# Altium integrated library Microchip Power Management CPU-System Supervisor.IntLib: 428 symbols (part 8 of 12)
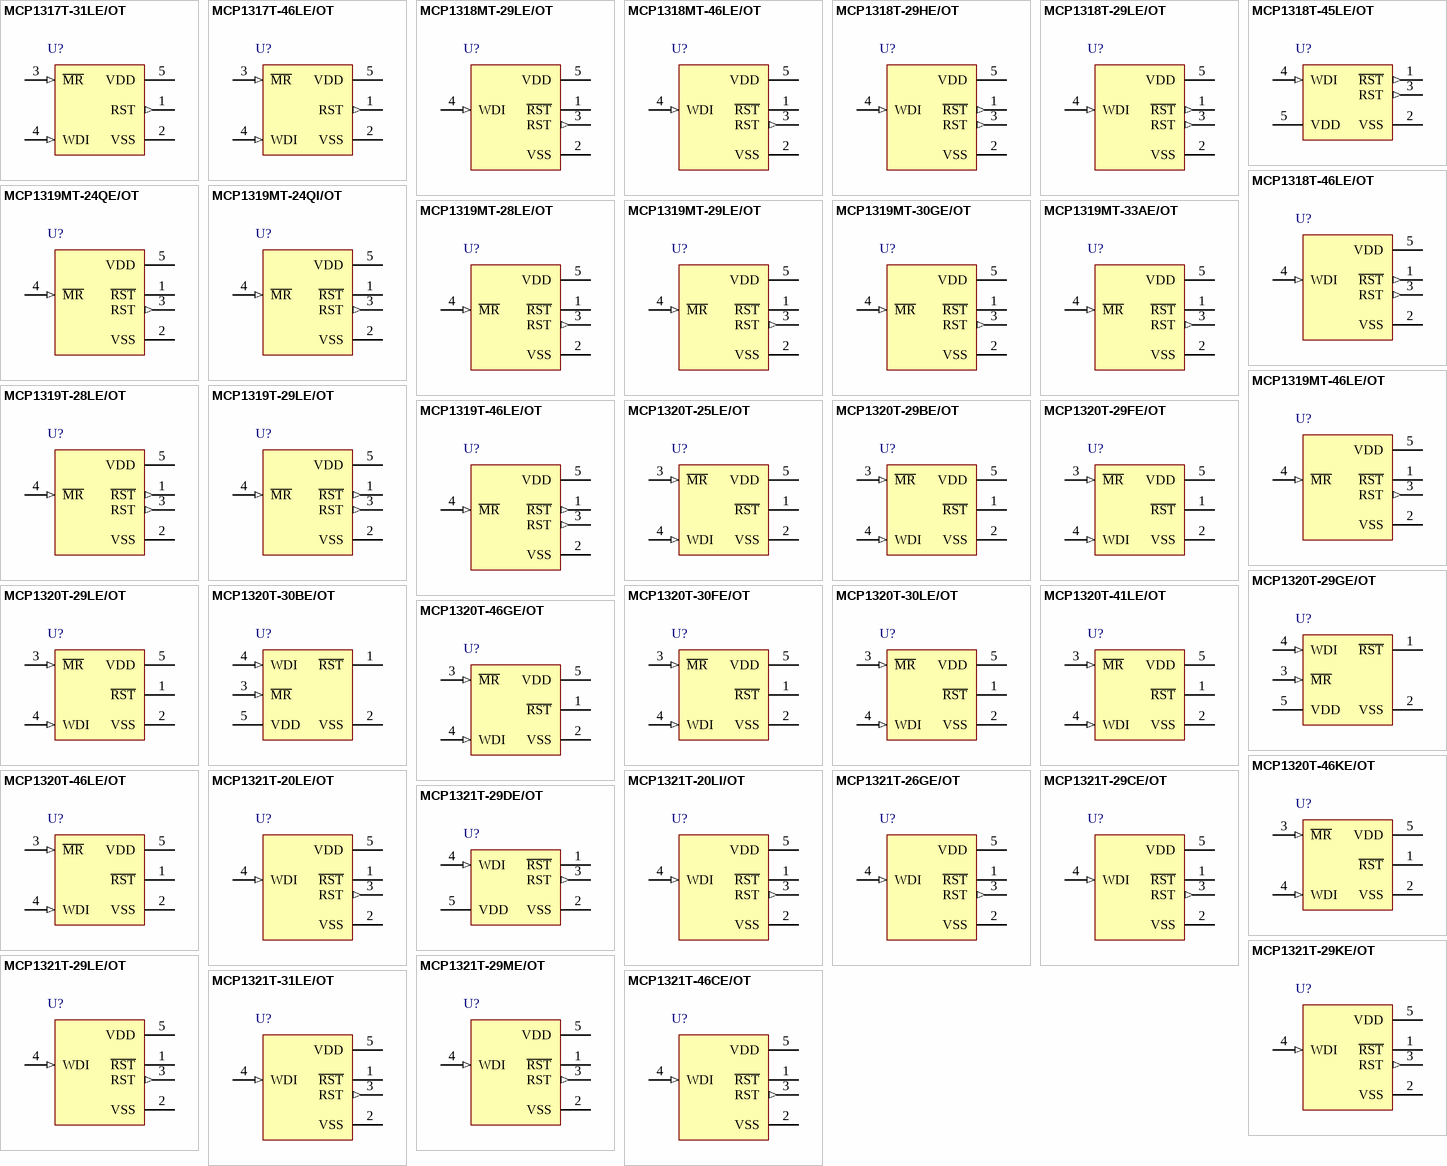
[diagram p17: symbols MCP1317T-31LE/OT to MCP1321T-46CE/OT]

## MCP1320T-46GE/OT
designator U?
Voltage Supervisor, 5-Pin SOT-23, Extended Temperature, Tape and Reel; Manufacturer: Microchip; PartNumber: MCP1320T-46GE/OT; DatasheetVersion: revB, Oct-2007; PackageVersion: revBB, Aug-2009; PackageReference: SOT-23-OT5; PackageDescription: 5-Lead Plastic Small Outline Transistor (OT) [SOT-23]; Supplier 1: Digi-Key; Supplier Part Number 1: MCP1320T-46GE/OTTR-ND; Supplier 2: Digi-Key; Supplier Part Number 2: MCP1320T-46GE/OTCT-ND; Supplier 3: Digi-Key; Supplier Part Number 3: MCP1320T-46GE/OTDKR-ND; Supplier 4: Mouser; Supplier Part Number 4: 579-MCP1320T-46GE/OT; Mounting Technology: Surface Mount; Code_IPC: SOT23-5; ComponentLink1Description: Manufacturer URL; ComponentLink1URL: http://www.microchip.com/; ComponentLink2Description: Datasheet; ComponentLink2URL: http://ww1.microchip.com/downloads/en/DeviceDoc/21985b.pdf; ComponentLink3Description: Package Specification; ComponentLink3URL: http://www.microchip.com/stellent/groups/techpub_sg/documents/packagingspec/en012702.pdf
footprint SOT-23-OT5_N (SOT23, 5-Leads, Body 2.9x1.6mm, Pitch 0.95mm, Lead Span 2.7mm, IPC Medium Density)
footprint SOT-23-OT5_L (SOT23, 5-Leads, Body 2.9x1.6mm, Pitch 0.95mm, Lead Span 2.7mm, IPC High Density)
footprint SOT-23-OT5_M (SOT23, 5-Leads, Body 2.9x1.6mm, Pitch 0.95mm, Lead Span 2.7mm, IPC Low Density)
pins: 1 ~{RST} (oc), 2 VSS (power), 3 ~{MR} (in), 4 WDI (in), 5 VDD (power)

## MCP1320T-46KE/OT
designator U?
Voltage Supervisor, 5-Pin SOT-23, Extended Temperature, Tape and Reel; Manufacturer: Microchip; PartNumber: MCP1320T-46KE/OT; DatasheetVersion: revB, Oct-2007; PackageVersion: revBB, Aug-2009; PackageReference: SOT-23-OT5; PackageDescription: 5-Lead Plastic Small Outline Transistor (OT) [SOT-23]; Supplier 1: Digi-Key; Supplier Part Number 1: MCP1320T-46KE/OTTR-ND; Supplier 2: Digi-Key; Supplier Part Number 2: MCP1320T-46KE/OTCT-ND; Supplier 3: Digi-Key; Supplier Part Number 3: MCP1320T-46KE/OTDKR-ND; Supplier 4: Mouser; Supplier Part Number 4: 579-MCP1320T-46KE/OT; Mounting Technology: Surface Mount; Code_IPC: SOT23-5; ComponentLink1Description: Manufacturer URL; ComponentLink1URL: http://www.microchip.com/; ComponentLink2Description: Datasheet; ComponentLink2URL: http://ww1.microchip.com/downloads/en/DeviceDoc/21985b.pdf; ComponentLink3Description: Package Specification; ComponentLink3URL: http://www.microchip.com/stellent/groups/techpub_sg/documents/packagingspec/en012702.pdf
footprint SOT-23-OT5_N (SOT23, 5-Leads, Body 2.9x1.6mm, Pitch 0.95mm, Lead Span 2.7mm, IPC Medium Density)
footprint SOT-23-OT5_L (SOT23, 5-Leads, Body 2.9x1.6mm, Pitch 0.95mm, Lead Span 2.7mm, IPC High Density)
footprint SOT-23-OT5_M (SOT23, 5-Leads, Body 2.9x1.6mm, Pitch 0.95mm, Lead Span 2.7mm, IPC Low Density)
pins: 1 ~{RST} (oc), 2 VSS (power), 3 ~{MR} (in), 4 WDI (in), 5 VDD (power)

## MCP1320T-46LE/OT
designator U?
Voltage Supervisor, 5-Pin SOT-23, Extended Temperature, Tape and Reel; Manufacturer: Microchip; PartNumber: MCP1320T-46LE/OT; DatasheetVersion: revB, Oct-2007; PackageVersion: revBB, Aug-2009; PackageReference: SOT-23-OT5; PackageDescription: 5-Lead Plastic Small Outline Transistor (OT) [SOT-23]; Supplier 1: Digi-Key; Supplier Part Number 1: MCP1320T-46LE/OTTR-ND; Supplier 2: Digi-Key; Supplier Part Number 2: MCP1320T-46LE/OTCT-ND; Supplier 3: Digi-Key; Supplier Part Number 3: MCP1320T-46LE/OTDKR-ND; Supplier 4: Farnell; Supplier Part Number 4: 1439365; Supplier 5: Farnell; Supplier Part Number 5: 1439365RL; Supplier 6: Newark; Supplier Part Number 6: 58M8858; Supplier 7: Newark; Supplier Part Number 7: 69K0089; Supplier 8: Mouser; Supplier Part Number 8: 579-MCP1320T-46LE/OT; Mounting Technology: Surface Mount; Code_IPC: SOT23-5; ComponentLink1Description: Manufacturer URL; ComponentLink1URL: http://www.microchip.com/; ComponentLink2Description: Datasheet; ComponentLink2URL: http://ww1.microchip.com/downloads/en/DeviceDoc/21985b.pdf; ComponentLink3Description: Package Specification; ComponentLink3URL: http://www.microchip.com/stellent/groups/techpub_sg/documents/packagingspec/en012702.pdf
footprint SOT-23-OT5_N (SOT23, 5-Leads, Body 2.9x1.6mm, Pitch 0.95mm, Lead Span 2.7mm, IPC Medium Density)
footprint SOT-23-OT5_L (SOT23, 5-Leads, Body 2.9x1.6mm, Pitch 0.95mm, Lead Span 2.7mm, IPC High Density)
footprint SOT-23-OT5_M (SOT23, 5-Leads, Body 2.9x1.6mm, Pitch 0.95mm, Lead Span 2.7mm, IPC Low Density)
pins: 1 ~{RST} (oc), 2 VSS (power), 3 ~{MR} (in), 4 WDI (in), 5 VDD (power)

## MCP1321T-20LE/OT
designator U?
Voltage Supervisor, 5-Pin SOT-23, Extended Temperature, Tape and Reel; Manufacturer: Microchip; PartNumber: MCP1321T-20LE/OT; DatasheetVersion: revB, Oct-2007; PackageVersion: revBB, Aug-2009; PackageReference: SOT-23-OT5; PackageDescription: 5-Lead Plastic Small Outline Transistor (OT) [SOT-23]; Mounting Technology: Surface Mount; Code_IPC: SOT23-5; ComponentLink1Description: Manufacturer URL; ComponentLink1URL: http://www.microchip.com/; ComponentLink2Description: Datasheet; ComponentLink2URL: http://ww1.microchip.com/downloads/en/DeviceDoc/21985b.pdf; ComponentLink3Description: Package Specification; ComponentLink3URL: http://www.microchip.com/stellent/groups/techpub_sg/documents/packagingspec/en012702.pdf
footprint SOT-23-OT5_N (SOT23, 5-Leads, Body 2.9x1.6mm, Pitch 0.95mm, Lead Span 2.7mm, IPC Medium Density)
footprint SOT-23-OT5_L (SOT23, 5-Leads, Body 2.9x1.6mm, Pitch 0.95mm, Lead Span 2.7mm, IPC High Density)
footprint SOT-23-OT5_M (SOT23, 5-Leads, Body 2.9x1.6mm, Pitch 0.95mm, Lead Span 2.7mm, IPC Low Density)
pins: 1 ~{RST} (oc), 2 VSS (power), 3 RST (out), 4 WDI (in), 5 VDD (power)

## MCP1321T-20LI/OT
designator U?
Voltage Supervisor, 5-Pin SOT-23, Extended Temperature, Tape and Reel; Manufacturer: Microchip; PartNumber: MCP1321T-20LI/OT; DatasheetVersion: revB, Oct-2007; PackageVersion: revBB, Aug-2009; PackageReference: SOT-23-OT5; PackageDescription: 5-Lead Plastic Small Outline Transistor (OT) [SOT-23]; Mounting Technology: Surface Mount; Code_IPC: SOT23-5; ComponentLink1Description: Manufacturer URL; ComponentLink1URL: http://www.microchip.com/; ComponentLink2Description: Datasheet; ComponentLink2URL: http://ww1.microchip.com/downloads/en/DeviceDoc/21985b.pdf; ComponentLink3Description: Package Specification; ComponentLink3URL: http://www.microchip.com/stellent/groups/techpub_sg/documents/packagingspec/en012702.pdf
footprint SOT-23-OT5_N (SOT23, 5-Leads, Body 2.9x1.6mm, Pitch 0.95mm, Lead Span 2.7mm, IPC Medium Density)
footprint SOT-23-OT5_L (SOT23, 5-Leads, Body 2.9x1.6mm, Pitch 0.95mm, Lead Span 2.7mm, IPC High Density)
footprint SOT-23-OT5_M (SOT23, 5-Leads, Body 2.9x1.6mm, Pitch 0.95mm, Lead Span 2.7mm, IPC Low Density)
pins: 1 ~{RST} (oc), 2 VSS (power), 3 RST (out), 4 WDI (in), 5 VDD (power)

## MCP1321T-26GE/OT
designator U?
Voltage Supervisor, 5-Pin SOT-23, Extended Temperature, Tape and Reel; Manufacturer: Microchip; PartNumber: MCP1321T-26GE/OT; DatasheetVersion: revB, Oct-2007; PackageVersion: revBB, Aug-2009; PackageReference: SOT-23-OT5; PackageDescription: 5-Lead Plastic Small Outline Transistor (OT) [SOT-23]; Mounting Technology: Surface Mount; Code_IPC: SOT23-5; ComponentLink1Description: Manufacturer URL; ComponentLink1URL: http://www.microchip.com/; ComponentLink2Description: Datasheet; ComponentLink2URL: http://ww1.microchip.com/downloads/en/DeviceDoc/21985b.pdf; ComponentLink3Description: Package Specification; ComponentLink3URL: http://www.microchip.com/stellent/groups/techpub_sg/documents/packagingspec/en012702.pdf
footprint SOT-23-OT5_N (SOT23, 5-Leads, Body 2.9x1.6mm, Pitch 0.95mm, Lead Span 2.7mm, IPC Medium Density)
footprint SOT-23-OT5_L (SOT23, 5-Leads, Body 2.9x1.6mm, Pitch 0.95mm, Lead Span 2.7mm, IPC High Density)
footprint SOT-23-OT5_M (SOT23, 5-Leads, Body 2.9x1.6mm, Pitch 0.95mm, Lead Span 2.7mm, IPC Low Density)
pins: 1 ~{RST} (oc), 2 VSS (power), 3 RST (out), 4 WDI (in), 5 VDD (power)

## MCP1321T-29CE/OT
designator U?
Voltage Supervisor, 5-Pin SOT-23, Extended Temperature, Tape and Reel; Manufacturer: Microchip; PartNumber: MCP1321T-29CE/OT; DatasheetVersion: revB, Oct-2007; PackageVersion: revBB, Aug-2009; PackageReference: SOT-23-OT5; PackageDescription: 5-Lead Plastic Small Outline Transistor (OT) [SOT-23]; Mounting Technology: Surface Mount; Code_IPC: SOT23-5; ComponentLink1Description: Manufacturer URL; ComponentLink1URL: http://www.microchip.com/; ComponentLink2Description: Datasheet; ComponentLink2URL: http://ww1.microchip.com/downloads/en/DeviceDoc/21985b.pdf; ComponentLink3Description: Package Specification; ComponentLink3URL: http://www.microchip.com/stellent/groups/techpub_sg/documents/packagingspec/en012702.pdf
footprint SOT-23-OT5_N (SOT23, 5-Leads, Body 2.9x1.6mm, Pitch 0.95mm, Lead Span 2.7mm, IPC Medium Density)
footprint SOT-23-OT5_L (SOT23, 5-Leads, Body 2.9x1.6mm, Pitch 0.95mm, Lead Span 2.7mm, IPC High Density)
footprint SOT-23-OT5_M (SOT23, 5-Leads, Body 2.9x1.6mm, Pitch 0.95mm, Lead Span 2.7mm, IPC Low Density)
pins: 1 ~{RST} (oc), 2 VSS (power), 3 RST (out), 4 WDI (in), 5 VDD (power)

## MCP1321T-29DE/OT
designator U?
Voltage Supervisor, 1 uA, 1 to 5.5 V, -40 to 125 degC, 5-pin SOT-23 (OT5), Tape and Reel; Manufacturer: Microchip; PartNumber: MCP1321T-29DE/OT; DatasheetVersion: Rev. D; PackageVersion: C04-091B; PackageReference: SOT-23-OT5; PackageDescription: 5-Lead Plastic Small Outline Transistor, 2.9 x 1.55 mm Body, 0.95 mm Pitch; Mounting Technology: Surface Mount; ComponentLink1Description: Manufacturer URL; ComponentLink1URL: http://www.microchip.com; ComponentLink2Description: Datasheet; ComponentLink2URL: http://ww1.microchip.com/downloads/en/DeviceDoc/21985D.pdf; ComponentLink3Description: Package Specification; ComponentLink3URL: http://www.microchip.com/stellent/groups/techpub_sg/documents/packagingspec/en012702.pdf; ComponentLink4Description: Product URL; ComponentLink4URL: http://www.microchip.com/MCP1321
footprint MCHP-SOT-23-OT5_N (SOT23, 5-Leads, Body 2.9x1.55mm, Pitch 0.95mm, IPC Medium Density)
footprint MCHP-SOT-23-OT5_L (SOT23, 5-Leads, Body 2.9x1.55mm, Pitch 0.95mm, IPC High Density)
footprint MCHP-SOT-23-OT5_M (SOT23, 5-Leads, Body 2.9x1.55mm, Pitch 0.95mm, IPC Low Density)
pins: 1 ~{RST} (oc) "Reset Output (active-low)", 2 VSS (power) "The ground reference for the device.", 3 RST (out) "Reset Output (active-high)", 4 WDI (in) "Watchdog Timer Input  The WDT period is specified at the time of device order. The Standard WDT period is 1.6s typical. An edge transition on the WDI pin resets the Watchdog Timer counter (no time out). A Falling Edge is (See Datasheet)", 5 VDD (power) "The positive supply for the device."

## MCP1321T-29KE/OT
designator U?
Voltage Supervisor, 5-Pin SOT-23, Extended Temperature, Tape and Reel; Manufacturer: Microchip; PartNumber: MCP1321T-29KE/OT; DatasheetVersion: revB, Oct-2007; PackageVersion: revBB, Aug-2009; PackageReference: SOT-23-OT5; PackageDescription: 5-Lead Plastic Small Outline Transistor (OT) [SOT-23]; Supplier 1: Digi-Key; Supplier Part Number 1: MCP1321T-29KE/OTTR-ND; Supplier 2: Digi-Key; Supplier Part Number 2: MCP1321T-29KE/OTCT-ND; Supplier 3: Digi-Key; Supplier Part Number 3: MCP1321T-29KE/OTDKR-ND; Supplier 4: Mouser; Supplier Part Number 4: 579-MCP1321T-29KE/OT; Mounting Technology: Surface Mount; Code_IPC: SOT23-5; ComponentLink1Description: Manufacturer URL; ComponentLink1URL: http://www.microchip.com/; ComponentLink2Description: Datasheet; ComponentLink2URL: http://ww1.microchip.com/downloads/en/DeviceDoc/21985b.pdf; ComponentLink3Description: Package Specification; ComponentLink3URL: http://www.microchip.com/stellent/groups/techpub_sg/documents/packagingspec/en012702.pdf
footprint SOT-23-OT5_N (SOT23, 5-Leads, Body 2.9x1.6mm, Pitch 0.95mm, Lead Span 2.7mm, IPC Medium Density)
footprint SOT-23-OT5_L (SOT23, 5-Leads, Body 2.9x1.6mm, Pitch 0.95mm, Lead Span 2.7mm, IPC High Density)
footprint SOT-23-OT5_M (SOT23, 5-Leads, Body 2.9x1.6mm, Pitch 0.95mm, Lead Span 2.7mm, IPC Low Density)
pins: 1 ~{RST} (oc), 2 VSS (power), 3 RST (out), 4 WDI (in), 5 VDD (power)

## MCP1321T-29LE/OT
designator U?
Voltage Supervisor, 5-Pin SOT-23, Extended Temperature, Tape and Reel; Manufacturer: Microchip; PartNumber: MCP1321T-29LE/OT; DatasheetVersion: revB, Oct-2007; PackageVersion: revBB, Aug-2009; PackageReference: SOT-23-OT5; PackageDescription: 5-Lead Plastic Small Outline Transistor (OT) [SOT-23]; Supplier 1: Digi-Key; Supplier Part Number 1: MCP1321T-29LE/OTTR-ND; Supplier 2: Digi-Key; Supplier Part Number 2: MCP1321T-29LE/OTCT-ND; Supplier 3: Digi-Key; Supplier Part Number 3: MCP1321T-29LE/OTDKR-ND; Supplier 4: Farnell; Supplier Part Number 4: 1439366; Supplier 5: Farnell; Supplier Part Number 5: 1439366RL; Supplier 6: Newark; Supplier Part Number 6: 58M8859; Supplier 7: Newark; Supplier Part Number 7: 69K0090; Supplier 8: Mouser; Supplier Part Number 8: 579-MCP1321T-29LE/OT; Mounting Technology: Surface Mount; Code_IPC: SOT23-5; ComponentLink1Description: Manufacturer URL; ComponentLink1URL: http://www.microchip.com/; ComponentLink2Description: Datasheet; ComponentLink2URL: http://ww1.microchip.com/downloads/en/DeviceDoc/21985b.pdf; ComponentLink3Description: Package Specification; ComponentLink3URL: http://www.microchip.com/stellent/groups/techpub_sg/documents/packagingspec/en012702.pdf
footprint SOT-23-OT5_N (SOT23, 5-Leads, Body 2.9x1.6mm, Pitch 0.95mm, Lead Span 2.7mm, IPC Medium Density)
footprint SOT-23-OT5_L (SOT23, 5-Leads, Body 2.9x1.6mm, Pitch 0.95mm, Lead Span 2.7mm, IPC High Density)
footprint SOT-23-OT5_M (SOT23, 5-Leads, Body 2.9x1.6mm, Pitch 0.95mm, Lead Span 2.7mm, IPC Low Density)
pins: 1 ~{RST} (oc), 2 VSS (power), 3 RST (out), 4 WDI (in), 5 VDD (power)

## MCP1321T-29ME/OT
designator U?
Voltage Supervisor, 5-Pin SOT-23, Extended Temperature, Tape and Reel; Manufacturer: Microchip; PartNumber: MCP1321T-29ME/OT; DatasheetVersion: revB, Oct-2007; PackageVersion: revBB, Aug-2009; PackageReference: SOT-23-OT5; PackageDescription: 5-Lead Plastic Small Outline Transistor (OT) [SOT-23]; Supplier 1: Digi-Key; Supplier Part Number 1: MCP1321T-29ME/OTTR-ND; Supplier 2: Digi-Key; Supplier Part Number 2: MCP1321T-29ME/OTCT-ND; Supplier 3: Digi-Key; Supplier Part Number 3: MCP1321T-29ME/OTDKR-ND; Supplier 4: Mouser; Supplier Part Number 4: 579-MCP1321T-29ME/OT; Mounting Technology: Surface Mount; Code_IPC: SOT23-5; ComponentLink1Description: Manufacturer URL; ComponentLink1URL: http://www.microchip.com/; ComponentLink2Description: Datasheet; ComponentLink2URL: http://ww1.microchip.com/downloads/en/DeviceDoc/21985b.pdf; ComponentLink3Description: Package Specification; ComponentLink3URL: http://www.microchip.com/stellent/groups/techpub_sg/documents/packagingspec/en012702.pdf
footprint SOT-23-OT5_N (SOT23, 5-Leads, Body 2.9x1.6mm, Pitch 0.95mm, Lead Span 2.7mm, IPC Medium Density)
footprint SOT-23-OT5_L (SOT23, 5-Leads, Body 2.9x1.6mm, Pitch 0.95mm, Lead Span 2.7mm, IPC High Density)
footprint SOT-23-OT5_M (SOT23, 5-Leads, Body 2.9x1.6mm, Pitch 0.95mm, Lead Span 2.7mm, IPC Low Density)
pins: 1 ~{RST} (oc), 2 VSS (power), 3 RST (out), 4 WDI (in), 5 VDD (power)

## MCP1321T-31LE/OT
designator U?
Voltage Supervisor, 5-Pin SOT-23, Extended Temperature, Tape and Reel; Manufacturer: Microchip; PartNumber: MCP1321T-31LE/OT; DatasheetVersion: revB, Oct-2007; PackageVersion: revBB, Aug-2009; PackageReference: SOT-23-OT5; PackageDescription: 5-Lead Plastic Small Outline Transistor (OT) [SOT-23]; Mounting Technology: Surface Mount; Code_IPC: SOT23-5; ComponentLink1Description: Manufacturer URL; ComponentLink1URL: http://www.microchip.com/; ComponentLink2Description: Datasheet; ComponentLink2URL: http://ww1.microchip.com/downloads/en/DeviceDoc/21985b.pdf; ComponentLink3Description: Package Specification; ComponentLink3URL: http://www.microchip.com/stellent/groups/techpub_sg/documents/packagingspec/en012702.pdf
footprint SOT-23-OT5_N (SOT23, 5-Leads, Body 2.9x1.6mm, Pitch 0.95mm, Lead Span 2.7mm, IPC Medium Density)
footprint SOT-23-OT5_L (SOT23, 5-Leads, Body 2.9x1.6mm, Pitch 0.95mm, Lead Span 2.7mm, IPC High Density)
footprint SOT-23-OT5_M (SOT23, 5-Leads, Body 2.9x1.6mm, Pitch 0.95mm, Lead Span 2.7mm, IPC Low Density)
pins: 1 ~{RST} (oc), 2 VSS (power), 3 RST (out), 4 WDI (in), 5 VDD (power)

## MCP1321T-46CE/OT
designator U?
Voltage Supervisor, 5-Pin SOT-23, Extended Temperature, Tape and Reel; Manufacturer: Microchip; PartNumber: MCP1321T-46CE/OT; DatasheetVersion: revB, Oct-2007; PackageVersion: revBB, Aug-2009; PackageReference: SOT-23-OT5; PackageDescription: 5-Lead Plastic Small Outline Transistor (OT) [SOT-23]; Supplier 1: Digi-Key; Supplier Part Number 1: MCP1321T-46CE/OTTR-ND; Supplier 2: Digi-Key; Supplier Part Number 2: MCP1321T-46CE/OTCT-ND; Supplier 3: Digi-Key; Supplier Part Number 3: MCP1321T-46CE/OTDKR-ND; Supplier 4: Mouser; Supplier Part Number 4: 579-MCP1321T-46CE/OT; Mounting Technology: Surface Mount; Code_IPC: SOT23-5; ComponentLink1Description: Manufacturer URL; ComponentLink1URL: http://www.microchip.com/; ComponentLink2Description: Datasheet; ComponentLink2URL: http://ww1.microchip.com/downloads/en/DeviceDoc/21985b.pdf; ComponentLink3Description: Package Specification; ComponentLink3URL: http://www.microchip.com/stellent/groups/techpub_sg/documents/packagingspec/en012702.pdf
footprint SOT-23-OT5_N (SOT23, 5-Leads, Body 2.9x1.6mm, Pitch 0.95mm, Lead Span 2.7mm, IPC Medium Density)
footprint SOT-23-OT5_L (SOT23, 5-Leads, Body 2.9x1.6mm, Pitch 0.95mm, Lead Span 2.7mm, IPC High Density)
footprint SOT-23-OT5_M (SOT23, 5-Leads, Body 2.9x1.6mm, Pitch 0.95mm, Lead Span 2.7mm, IPC Low Density)
pins: 1 ~{RST} (oc), 2 VSS (power), 3 RST (out), 4 WDI (in), 5 VDD (power)

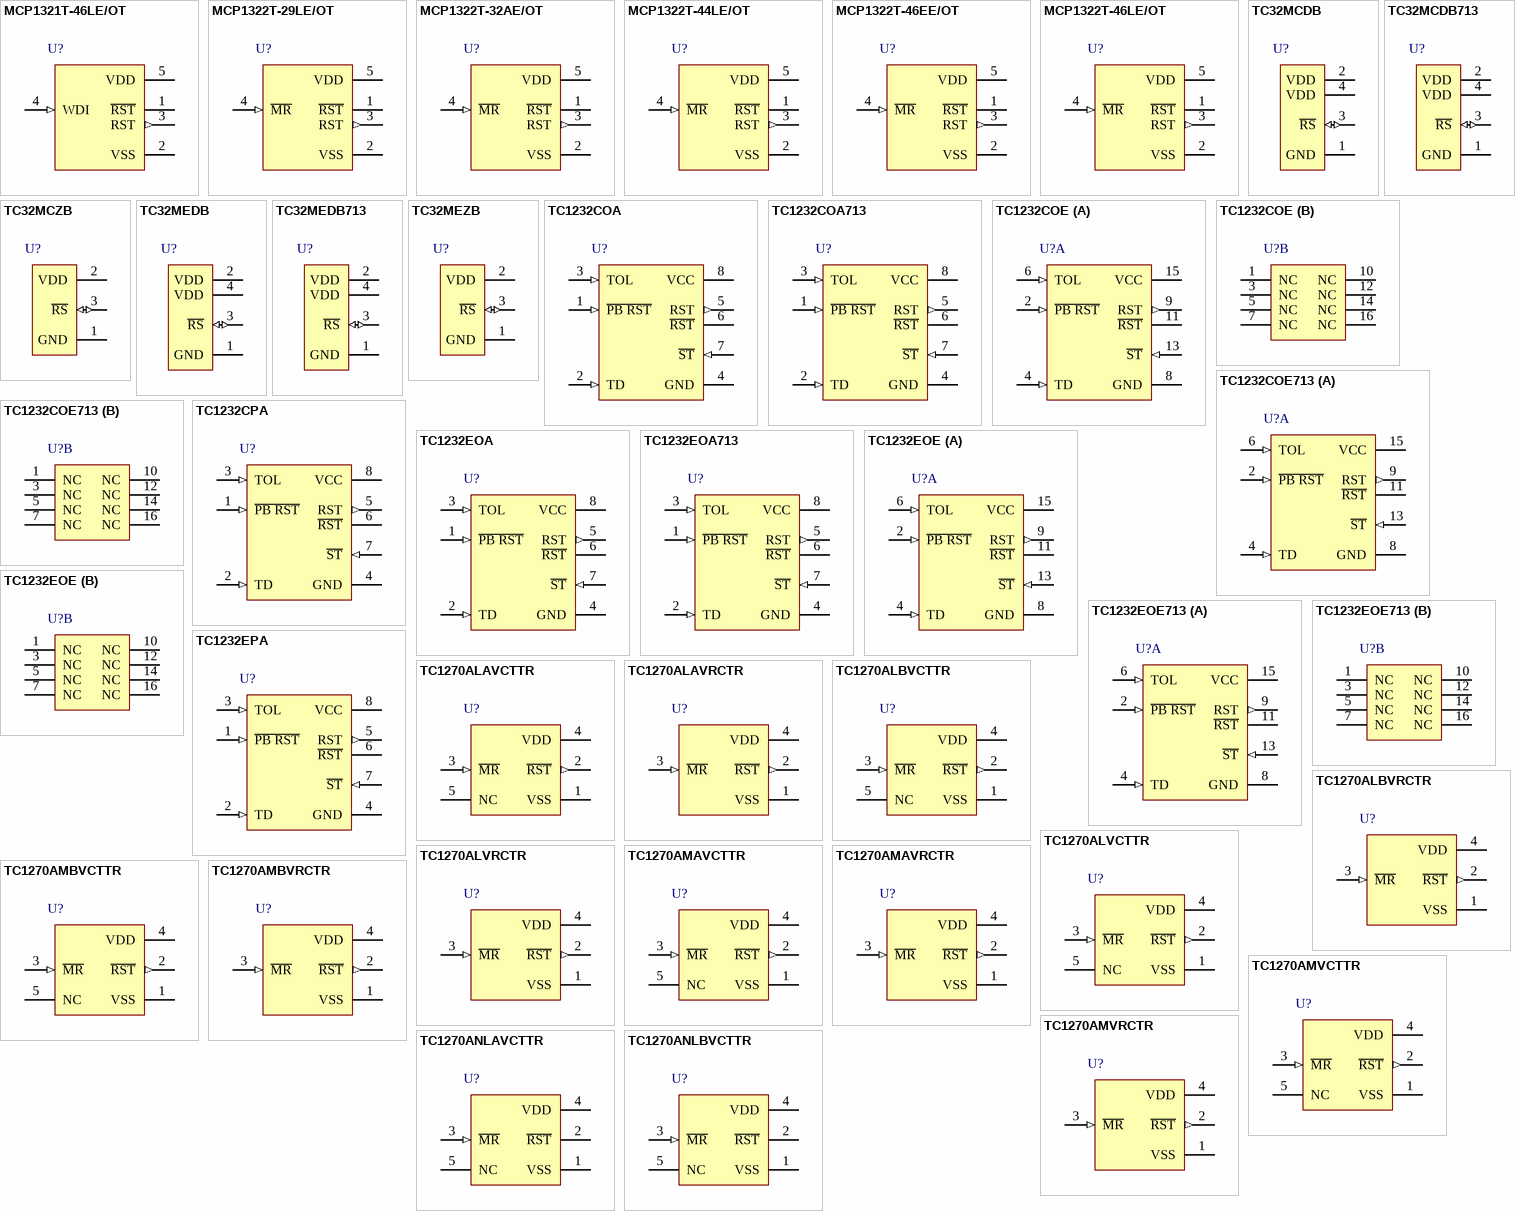
[diagram p7: symbols MCP1321T-46LE/OT to TC1270ANLBVCTTR]

## MCP1321T-46LE/OT
designator U?
Voltage Supervisor, 5-Pin SOT-23, Extended Temperature, Tape and Reel; Manufacturer: Microchip; PartNumber: MCP1321T-46LE/OT; DatasheetVersion: revB, Oct-2007; PackageVersion: revBB, Aug-2009; PackageReference: SOT-23-OT5; PackageDescription: 5-Lead Plastic Small Outline Transistor (OT) [SOT-23]; Supplier 1: Digi-Key; Supplier Part Number 1: MCP1321T-46LE/OTTR-ND; Supplier 2: Digi-Key; Supplier Part Number 2: MCP1321T-46LE/OTCT-ND; Supplier 3: Digi-Key; Supplier Part Number 3: MCP1321T-46LE/OTDKR-ND; Supplier 4: Newark; Supplier Part Number 4: 69K0091; Supplier 5: Mouser; Supplier Part Number 5: 579-MCP1321T-46LE/OT; Mounting Technology: Surface Mount; Code_IPC: SOT23-5; ComponentLink1Description: Manufacturer URL; ComponentLink1URL: http://www.microchip.com/; ComponentLink2Description: Datasheet; ComponentLink2URL: http://ww1.microchip.com/downloads/en/DeviceDoc/21985b.pdf; ComponentLink3Description: Package Specification; ComponentLink3URL: http://www.microchip.com/stellent/groups/techpub_sg/documents/packagingspec/en012702.pdf
footprint SOT-23-OT5_N (SOT23, 5-Leads, Body 2.9x1.6mm, Pitch 0.95mm, Lead Span 2.7mm, IPC Medium Density)
footprint SOT-23-OT5_L (SOT23, 5-Leads, Body 2.9x1.6mm, Pitch 0.95mm, Lead Span 2.7mm, IPC High Density)
footprint SOT-23-OT5_M (SOT23, 5-Leads, Body 2.9x1.6mm, Pitch 0.95mm, Lead Span 2.7mm, IPC Low Density)
pins: 1 ~{RST} (oc), 2 VSS (power), 3 RST (out), 4 WDI (in), 5 VDD (power)

## MCP1322T-29LE/OT
designator U?
Voltage Supervisor, 5-Pin SOT-23, Extended Temperature, Tape and Reel; Manufacturer: Microchip; PartNumber: MCP1322T-29LE/OT; DatasheetVersion: revB, Oct-2007; PackageVersion: revBB, Aug-2009; PackageReference: SOT-23-OT5; PackageDescription: 5-Lead Plastic Small Outline Transistor (OT) [SOT-23]; Supplier 1: Digi-Key; Supplier Part Number 1: MCP1322T-29LE/OTTR-ND; Supplier 2: Digi-Key; Supplier Part Number 2: MCP1322T-29LE/OTCT-ND; Supplier 3: Digi-Key; Supplier Part Number 3: MCP1322T-29LE/OTDKR-ND; Supplier 4: Farnell; Supplier Part Number 4: 1439368RL; Supplier 5: Farnell; Supplier Part Number 5: 1439368; Supplier 6: Newark; Supplier Part Number 6: 58M8861; Supplier 7: Newark; Supplier Part Number 7: 69K0092; Supplier 8: Mouser; Supplier Part Number 8: 579-MCP1322T-29LE/OT; Mounting Technology: Surface Mount; Code_IPC: SOT23-5; ComponentLink1Description: Manufacturer URL; ComponentLink1URL: http://www.microchip.com/; ComponentLink2Description: Datasheet; ComponentLink2URL: http://ww1.microchip.com/downloads/en/DeviceDoc/21985b.pdf; ComponentLink3Description: Package Specification; ComponentLink3URL: http://www.microchip.com/stellent/groups/techpub_sg/documents/packagingspec/en012702.pdf
footprint SOT-23-OT5_N (SOT23, 5-Leads, Body 2.9x1.6mm, Pitch 0.95mm, Lead Span 2.7mm, IPC Medium Density)
footprint SOT-23-OT5_L (SOT23, 5-Leads, Body 2.9x1.6mm, Pitch 0.95mm, Lead Span 2.7mm, IPC High Density)
footprint SOT-23-OT5_M (SOT23, 5-Leads, Body 2.9x1.6mm, Pitch 0.95mm, Lead Span 2.7mm, IPC Low Density)
pins: 1 ~{RST} (oc), 2 VSS (power), 3 RST (out), 4 ~{MR} (in), 5 VDD (power)

## MCP1322T-32AE/OT
designator U?
Voltage Supervisor, 5-Pin SOT-23, Extended Temperature, Tape and Reel; Manufacturer: Microchip; PartNumber: MCP1322T-32AE/OT; DatasheetVersion: revB, Oct-2007; PackageVersion: revBB, Aug-2009; PackageReference: SOT-23-OT5; PackageDescription: 5-Lead Plastic Small Outline Transistor (OT) [SOT-23]; Mounting Technology: Surface Mount; Code_IPC: SOT23-5; ComponentLink1Description: Manufacturer URL; ComponentLink1URL: http://www.microchip.com/; ComponentLink2Description: Datasheet; ComponentLink2URL: http://ww1.microchip.com/downloads/en/DeviceDoc/21985b.pdf; ComponentLink3Description: Package Specification; ComponentLink3URL: http://www.microchip.com/stellent/groups/techpub_sg/documents/packagingspec/en012702.pdf
footprint SOT-23-OT5_N (SOT23, 5-Leads, Body 2.9x1.6mm, Pitch 0.95mm, Lead Span 2.7mm, IPC Medium Density)
footprint SOT-23-OT5_L (SOT23, 5-Leads, Body 2.9x1.6mm, Pitch 0.95mm, Lead Span 2.7mm, IPC High Density)
footprint SOT-23-OT5_M (SOT23, 5-Leads, Body 2.9x1.6mm, Pitch 0.95mm, Lead Span 2.7mm, IPC Low Density)
pins: 1 ~{RST} (oc), 2 VSS (power), 3 RST (out), 4 ~{MR} (in), 5 VDD (power)

## MCP1322T-44LE/OT
designator U?
Voltage Supervisor, 5-Pin SOT-23, Extended Temperature, Tape and Reel; Manufacturer: Microchip; PartNumber: MCP1322T-44LE/OT; DatasheetVersion: revB, Oct-2007; PackageVersion: revBB, Aug-2009; PackageReference: SOT-23-OT5; PackageDescription: 5-Lead Plastic Small Outline Transistor (OT) [SOT-23]; Mounting Technology: Surface Mount; Code_IPC: SOT23-5; ComponentLink1Description: Manufacturer URL; ComponentLink1URL: http://www.microchip.com/; ComponentLink2Description: Datasheet; ComponentLink2URL: http://ww1.microchip.com/downloads/en/DeviceDoc/21985b.pdf; ComponentLink3Description: Package Specification; ComponentLink3URL: http://www.microchip.com/stellent/groups/techpub_sg/documents/packagingspec/en012702.pdf
footprint SOT-23-OT5_N (SOT23, 5-Leads, Body 2.9x1.6mm, Pitch 0.95mm, Lead Span 2.7mm, IPC Medium Density)
footprint SOT-23-OT5_L (SOT23, 5-Leads, Body 2.9x1.6mm, Pitch 0.95mm, Lead Span 2.7mm, IPC High Density)
footprint SOT-23-OT5_M (SOT23, 5-Leads, Body 2.9x1.6mm, Pitch 0.95mm, Lead Span 2.7mm, IPC Low Density)
pins: 1 ~{RST} (oc), 2 VSS (power), 3 RST (out), 4 ~{MR} (in), 5 VDD (power)

## MCP1322T-46EE/OT
designator U?
Voltage Supervisor, 5-Pin SOT-23, Extended Temperature, Tape and Reel; Manufacturer: Microchip; PartNumber: MCP1322T-46EE/OT; DatasheetVersion: revB, Oct-2007; PackageVersion: revBB, Aug-2009; PackageReference: SOT-23-OT5; PackageDescription: 5-Lead Plastic Small Outline Transistor (OT) [SOT-23]; Supplier 1: Digi-Key; Supplier Part Number 1: MCP1322T-46EE/OTTR-ND; Supplier 2: Digi-Key; Supplier Part Number 2: MCP1322T-46EE/OTCT-ND; Supplier 3: Digi-Key; Supplier Part Number 3: MCP1322T-46EE/OTDKR-ND; Supplier 4: Newark; Supplier Part Number 4: 14R8861; Supplier 5: Mouser; Supplier Part Number 5: 579-MCP1322T-46EE/OT; Mounting Technology: Surface Mount; Code_IPC: SOT23-5; ComponentLink1Description: Manufacturer URL; ComponentLink1URL: http://www.microchip.com/; ComponentLink2Description: Datasheet; ComponentLink2URL: http://ww1.microchip.com/downloads/en/DeviceDoc/21985b.pdf; ComponentLink3Description: Package Specification; ComponentLink3URL: http://www.microchip.com/stellent/groups/techpub_sg/documents/packagingspec/en012702.pdf
footprint SOT-23-OT5_N (SOT23, 5-Leads, Body 2.9x1.6mm, Pitch 0.95mm, Lead Span 2.7mm, IPC Medium Density)
footprint SOT-23-OT5_L (SOT23, 5-Leads, Body 2.9x1.6mm, Pitch 0.95mm, Lead Span 2.7mm, IPC High Density)
footprint SOT-23-OT5_M (SOT23, 5-Leads, Body 2.9x1.6mm, Pitch 0.95mm, Lead Span 2.7mm, IPC Low Density)
pins: 1 ~{RST} (oc), 2 VSS (power), 3 RST (out), 4 ~{MR} (in), 5 VDD (power)

## MCP1322T-46LE/OT
designator U?
Voltage Supervisor, 5-Pin SOT-23, Extended Temperature, Tape and Reel; Manufacturer: Microchip; PartNumber: MCP1322T-46LE/OT; DatasheetVersion: revB, Oct-2007; PackageVersion: revBB, Aug-2009; PackageReference: SOT-23-OT5; PackageDescription: 5-Lead Plastic Small Outline Transistor (OT) [SOT-23]; Supplier 1: Digi-Key; Supplier Part Number 1: MCP1322T-46LE/OTTR-ND; Supplier 2: Digi-Key; Supplier Part Number 2: MCP1322T-46LE/OTCT-ND; Supplier 3: Digi-Key; Supplier Part Number 3: MCP1322T-46LE/OTDKR-ND; Supplier 4: Farnell; Supplier Part Number 4: 1439369; Supplier 5: Farnell; Supplier Part Number 5: 1439369RL; Supplier 6: Newark; Supplier Part Number 6: 58M8862; Supplier 7: Newark; Supplier Part Number 7: 69K0093; Supplier 8: Mouser; Supplier Part Number 8: 579-MCP1322T-46LE/OT; Mounting Technology: Surface Mount; Code_IPC: SOT23-5; ComponentLink1Description: Manufacturer URL; ComponentLink1URL: http://www.microchip.com/; ComponentLink2Description: Datasheet; ComponentLink2URL: http://ww1.microchip.com/downloads/en/DeviceDoc/21985b.pdf; ComponentLink3Description: Package Specification; ComponentLink3URL: http://www.microchip.com/stellent/groups/techpub_sg/documents/packagingspec/en012702.pdf
footprint SOT-23-OT5_N (SOT23, 5-Leads, Body 2.9x1.6mm, Pitch 0.95mm, Lead Span 2.7mm, IPC Medium Density)
footprint SOT-23-OT5_L (SOT23, 5-Leads, Body 2.9x1.6mm, Pitch 0.95mm, Lead Span 2.7mm, IPC High Density)
footprint SOT-23-OT5_M (SOT23, 5-Leads, Body 2.9x1.6mm, Pitch 0.95mm, Lead Span 2.7mm, IPC Low Density)
pins: 1 ~{RST} (oc), 2 VSS (power), 3 RST (out), 4 ~{MR} (in), 5 VDD (power)

## TC32MCDB
designator U?
ECONOMONITOR™ - 3-Pin System Supervisor with Power Supply Monitor and Watchdog, 4-Pin SOT-223, Commercial Temperature; Manufacturer: Microchip; PartNumber: TC32MCDB; DatasheetVersion: revC, 20076; PackageVersion: revBB, Aug-2009; PackageReference: SOT-223-DB3; PackageDescription: 3-Lead Plastic Small Outline Transistor (DB) [SOT-223]; Supplier 1: Digi-Key; Supplier Part Number 1: TC32MCDB-ND; Supplier 2: Mouser; Supplier Part Number 2: 579-TC32MCDB; Mounting Technology: Surface Mount; ComponentLink1Description: Manufacturer URL; ComponentLink1URL: http://www.microchip.com/; ComponentLink2Description: Datasheet; ComponentLink2URL: http://ww1.microchip.com/downloads/en/DeviceDoc/21402C.pdf; ComponentLink3Description: Package Specification; ComponentLink3URL: http://www.microchip.com/stellent/groups/techpub_sg/documents/packagingspec/en012702.pdf
footprint SOT-223-DB3_N (SOT223, 4-Leads, Body 6.5x3.5mm, Pitch 2.3mm, Lead Span 7mm, IPC Medium Density)
footprint SOT-223-DB3_L (SOT223, 4-Leads, Body 6.5x3.5mm, Pitch 2.3mm, Lead Span 7mm, IPC High Density)
footprint SOT-223-DB3_M (SOT223, 4-Leads, Body 6.5x3.5mm, Pitch 2.3mm, Lead Span 7mm, IPC Low Density)
pins: 1 GND (power), 2 VDD (power), 3 ~{RS} (io), 4 VDD (power)

## TC32MCDB713
designator U?
ECONOMONITOR™ - 3-Pin System Supervisor with Power Supply Monitor and Watchdog, 4-Pin SOT-223, Commercial Temperature, Tape and Reel; Manufacturer: Microchip; PartNumber: TC32MCDB713; DatasheetVersion: revC, 20076; PackageVersion: revBB, Aug-2009; PackageReference: SOT-223-DB3; PackageDescription: 3-Lead Plastic Small Outline Transistor (DB) [SOT-223]; Supplier 1: Digi-Key; Supplier Part Number 1: TC32MCDB713-ND; Supplier 2: Mouser; Supplier Part Number 2: 579-TC32MCDB713; Mounting Technology: Surface Mount; ComponentLink1Description: Manufacturer URL; ComponentLink1URL: http://www.microchip.com/; ComponentLink2Description: Datasheet; ComponentLink2URL: http://ww1.microchip.com/downloads/en/DeviceDoc/21402C.pdf; ComponentLink3Description: Package Specification; ComponentLink3URL: http://www.microchip.com/stellent/groups/techpub_sg/documents/packagingspec/en012702.pdf
footprint SOT-223-DB3_N (SOT223, 4-Leads, Body 6.5x3.5mm, Pitch 2.3mm, Lead Span 7mm, IPC Medium Density)
footprint SOT-223-DB3_L (SOT223, 4-Leads, Body 6.5x3.5mm, Pitch 2.3mm, Lead Span 7mm, IPC High Density)
footprint SOT-223-DB3_M (SOT223, 4-Leads, Body 6.5x3.5mm, Pitch 2.3mm, Lead Span 7mm, IPC Low Density)
pins: 1 GND (power), 2 VDD (power), 3 ~{RS} (io), 4 VDD (power)

## TC32MCZB
designator U?
ECONOMONITOR™ - 3-Pin System Supervisor with Power Supply Monitor and Watchdog, 3-Pin TO-92, Commercial Temperature; Manufacturer: Microchip; PartNumber: TC32MCZB; DatasheetVersion: revC, 20076; PackageVersion: revBB, Aug-2009; PackageReference: TO-92-ZB3; PackageDescription: 3-Lead Plastic Transistor Outline (ZB) [TO-92]; Supplier 1: Digi-Key; Supplier Part Number 1: TC32MCZB-ND; Supplier 2: Newark; Supplier Part Number 2: 92C6001; Supplier 3: Mouser; Supplier Part Number 3: 579-TC32MCZB; Mounting Technology: Through Hole; ComponentLink1Description: Manufacturer URL; ComponentLink1URL: http://www.microchip.com/; ComponentLink2Description: Datasheet; ComponentLink2URL: http://ww1.microchip.com/downloads/en/DeviceDoc/21402C.pdf; ComponentLink3Description: Package Specification; ComponentLink3URL: http://www.microchip.com/stellent/groups/techpub_sg/documents/packagingspec/en012702.pdf
footprint TO-92-ZB3 (TO, Flat Index; 3 In-Line, Axial Leads; Body Dia. 4.8mm; Leads 0.56 x 0.53 mm (max))
pins: 1 GND (power), 2 VDD (power), 3 ~{RS} (io)

## TC32MEDB
designator U?
ECONOMONITOR™ - 3-Pin System Supervisor with Power Supply Monitor and Watchdog, 4-Pin SOT-223, Extended Temperature; Manufacturer: Microchip; PartNumber: TC32MEDB; DatasheetVersion: revC, 20076; PackageVersion: revBB, Aug-2009; PackageReference: SOT-223-DB3; PackageDescription: 3-Lead Plastic Small Outline Transistor (DB) [SOT-223]; Supplier 1: Digi-Key; Supplier Part Number 1: TC32MEDB-ND; Supplier 2: Mouser; Supplier Part Number 2: 579-TC32MEDB; Mounting Technology: Surface Mount; ComponentLink1Description: Manufacturer URL; ComponentLink1URL: http://www.microchip.com/; ComponentLink2Description: Datasheet; ComponentLink2URL: http://ww1.microchip.com/downloads/en/DeviceDoc/21402C.pdf; ComponentLink3Description: Package Specification; ComponentLink3URL: http://www.microchip.com/stellent/groups/techpub_sg/documents/packagingspec/en012702.pdf
footprint SOT-223-DB3_N (SOT223, 4-Leads, Body 6.5x3.5mm, Pitch 2.3mm, Lead Span 7mm, IPC Medium Density)
footprint SOT-223-DB3_L (SOT223, 4-Leads, Body 6.5x3.5mm, Pitch 2.3mm, Lead Span 7mm, IPC High Density)
footprint SOT-223-DB3_M (SOT223, 4-Leads, Body 6.5x3.5mm, Pitch 2.3mm, Lead Span 7mm, IPC Low Density)
pins: 1 GND (power), 2 VDD (power), 3 ~{RS} (io), 4 VDD (power)

## TC32MEDB713
designator U?
ECONOMONITOR™ - 3-Pin System Supervisor with Power Supply Monitor and Watchdog, 4-Pin SOT-223, Extended Temperature, Tape and Reel; Manufacturer: Microchip; PartNumber: TC32MEDB713; DatasheetVersion: revC, 20076; PackageVersion: revBB, Aug-2009; PackageReference: SOT-223-DB3; PackageDescription: 3-Lead Plastic Small Outline Transistor (DB) [SOT-223]; Supplier 1: Digi-Key; Supplier Part Number 1: TC32MEDB713TR-ND; Supplier 2: Digi-Key; Supplier Part Number 2: TC32MEDB713CT-ND; Supplier 3: Digi-Key; Supplier Part Number 3: TC32MEDB713DKR-ND; Supplier 4: Newark; Supplier Part Number 4: 92C6003; Supplier 5: Mouser; Supplier Part Number 5: 579-TC32MEDB713; Mounting Technology: Surface Mount; ComponentLink1Description: Manufacturer URL; ComponentLink1URL: http://www.microchip.com/; ComponentLink2Description: Datasheet; ComponentLink2URL: http://ww1.microchip.com/downloads/en/DeviceDoc/21402C.pdf; ComponentLink3Description: Package Specification; ComponentLink3URL: http://www.microchip.com/stellent/groups/techpub_sg/documents/packagingspec/en012702.pdf
footprint SOT-223-DB3_N (SOT223, 4-Leads, Body 6.5x3.5mm, Pitch 2.3mm, Lead Span 7mm, IPC Medium Density)
footprint SOT-223-DB3_L (SOT223, 4-Leads, Body 6.5x3.5mm, Pitch 2.3mm, Lead Span 7mm, IPC High Density)
footprint SOT-223-DB3_M (SOT223, 4-Leads, Body 6.5x3.5mm, Pitch 2.3mm, Lead Span 7mm, IPC Low Density)
pins: 1 GND (power), 2 VDD (power), 3 ~{RS} (io), 4 VDD (power)

## TC32MEZB
designator U?
ECONOMONITOR™ - 3-Pin System Supervisor with Power Supply Monitor and Watchdog, 3-Pin TO-92, Extended Temperature; Manufacturer: Microchip; PartNumber: TC32MEZB; DatasheetVersion: revC, 20076; PackageVersion: revBB, Aug-2009; PackageReference: TO-92-ZB3; PackageDescription: 3-Lead Plastic Transistor Outline (ZB) [TO-92]; Supplier 1: Digi-Key; Supplier Part Number 1: TC32MEZB-ND; Supplier 2: Mouser; Supplier Part Number 2: 579-TC32MEZB; Mounting Technology: Through Hole; ComponentLink1Description: Manufacturer URL; ComponentLink1URL: http://www.microchip.com/; ComponentLink2Description: Datasheet; ComponentLink2URL: http://ww1.microchip.com/downloads/en/DeviceDoc/21402C.pdf; ComponentLink3Description: Package Specification; ComponentLink3URL: http://www.microchip.com/stellent/groups/techpub_sg/documents/packagingspec/en012702.pdf
footprint TO-92-ZB3 (TO, Flat Index; 3 In-Line, Axial Leads; Body Dia. 4.8mm; Leads 0.56 x 0.53 mm (max))
pins: 1 GND (power), 2 VDD (power), 3 ~{RS} (io)

## TC1232COA
designator U?
Microprocessor Monitor, 8-Pin SOIC, Commercial Temperature; Manufacturer: Microchip; PartNumber: TC1232COA; DatasheetVersion: revC, Jun-2005; PackageVersion: revBB, Aug-2009; PackageReference: SOIC-OA8; PackageDescription: 8-Lead Plastic Small Outline (OA) - Narrow, 3.90mm Body [SOIC]; Supplier 1: Digi-Key; Supplier Part Number 1: TC1232COA-ND; Supplier 2: Farnell; Supplier Part Number 2: 1196813; Supplier 3: Newark; Supplier Part Number 3: 96K4008; Supplier 4: Mouser; Supplier Part Number 4: 579-TC1232COA; Mounting Technology: Surface Mount; Code_IPC: SOIC127P600-8; ComponentLink1Description: Manufacturer URL; ComponentLink1URL: http://www.microchip.com/; ComponentLink2Description: Datasheet; ComponentLink2URL: http://ww1.microchip.com/downloads/en/DeviceDoc/21370c.pdf; ComponentLink3Description: Package Specification; ComponentLink3URL: http://www.microchip.com/stellent/groups/techpub_sg/documents/packagingspec/en012702.pdf
footprint SOIC-OA8_N (SOIC, 8-Leads, Body 4.9x3.9mm, Pitch 1.27mm, IPC Medium Density)
footprint SOIC-OA8_L (SOIC, 8-Leads, Body 4.9x3.9mm, Pitch 1.27mm, IPC High Density)
footprint SOIC-OA8_M (SOIC, 8-Leads, Body 4.9x3.9mm, Pitch 1.27mm, IPC Low Density)
pins: 1 ~{PB RST} (in), 2 TD (in), 3 TOL (in), 4 GND (power), 5 RST (out), 6 ~{RST} (oc), 7 ~{ST} (in), 8 VCC (power)

## TC1232COA713
designator U?
Microprocessor Monitor, 8-Pin SOIC, Commercial Temperature, Tape and Reel; Manufacturer: Microchip; PartNumber: TC1232COA713; DatasheetVersion: revC, Jun-2005; PackageVersion: revBB, Aug-2009; PackageReference: SOIC-OA8; PackageDescription: 8-Lead Plastic Small Outline (OA) - Narrow, 3.90mm Body [SOIC]; Supplier 1: Digi-Key; Supplier Part Number 1: TC1232COA713-ND; Supplier 2: Mouser; Supplier Part Number 2: 579-TC1232COA713; Mounting Technology: Surface Mount; Code_IPC: SOIC127P600-8; ComponentLink1Description: Manufacturer URL; ComponentLink1URL: http://www.microchip.com/; ComponentLink2Description: Datasheet; ComponentLink2URL: http://ww1.microchip.com/downloads/en/DeviceDoc/21370c.pdf; ComponentLink3Description: Package Specification; ComponentLink3URL: http://www.microchip.com/stellent/groups/techpub_sg/documents/packagingspec/en012702.pdf
footprint SOIC-OA8_N (SOIC, 8-Leads, Body 4.9x3.9mm, Pitch 1.27mm, IPC Medium Density)
footprint SOIC-OA8_L (SOIC, 8-Leads, Body 4.9x3.9mm, Pitch 1.27mm, IPC High Density)
footprint SOIC-OA8_M (SOIC, 8-Leads, Body 4.9x3.9mm, Pitch 1.27mm, IPC Low Density)
pins: 1 ~{PB RST} (in), 2 TD (in), 3 TOL (in), 4 GND (power), 5 RST (out), 6 ~{RST} (oc), 7 ~{ST} (in), 8 VCC (power)

## TC1232COE
designator U?
Microprocessor Monitor, 16-Pin SOIC, Commercial Temperature; Manufacturer: Microchip; PartNumber: TC1232COE; DatasheetVersion: revC, Jun-2005; PackageVersion: revBB, Aug-2009; PackageReference: SOIC-OE16; PackageDescription: 16-Lead Plastic Small Outline (OE) - Wide 7.50mm Body [SOIC]; Supplier 1: Digi-Key; Supplier Part Number 1: TC1232COE-ND; Supplier 2: Newark; Supplier Part Number 2: 92C5734; Supplier 3: Mouser; Supplier Part Number 3: 579-TC1232COE; Mounting Technology: Surface Mount; Code_JEDEC: MS-013-AA; Code_IPC: SOIC127P1030-16; ComponentLink1Description: Manufacturer URL; ComponentLink1URL: http://www.microchip.com/; ComponentLink2Description: Datasheet; ComponentLink2URL: http://ww1.microchip.com/downloads/en/DeviceDoc/21370c.pdf; ComponentLink3Description: Package Specification; ComponentLink3URL: http://www.microchip.com/stellent/groups/techpub_sg/documents/packagingspec/en012702.pdf
footprint SOIC-OE16_N (SOIC, 16-Leads, Body 10.3x7.5mm, Pitch 1.27mm, IPC Medium Density)
footprint SOIC-OE16_L (SOIC, 16-Leads, Body 10.3x7.5mm, Pitch 1.27mm, IPC High Density)
footprint SOIC-OE16_M (SOIC, 16-Leads, Body 10.3x7.5mm, Pitch 1.27mm, IPC Low Density)
part A pins: 2 ~{PB RST} (in), 4 TD (in), 6 TOL (in), 8 GND (power), 9 RST (out), 11 ~{RST} (oc), 13 ~{ST} (in), 15 VCC (power)
part B pins: 1 NC, 3 NC, 5 NC, 7 NC, 10 NC, 12 NC, 14 NC, 16 NC

## TC1232COE713
designator U?
Microprocessor Monitor, 16-Pin SOIC, Commercial Temperature, Tape and Reel; Manufacturer: Microchip; PartNumber: TC1232COE713; DatasheetVersion: revC, Jun-2005; PackageVersion: revBB, Aug-2009; PackageReference: SOIC-OE16; PackageDescription: 16-Lead Plastic Small Outline (OE) - Wide 7.50mm Body [SOIC]; Supplier 1: Digi-Key; Supplier Part Number 1: TC1232COE713-ND; Supplier 2: Mouser; Supplier Part Number 2: 579-TC1232COE713; Mounting Technology: Surface Mount; Code_JEDEC: MS-013-AA; Code_IPC: SOIC127P1030-16; ComponentLink1Description: Manufacturer URL; ComponentLink1URL: http://www.microchip.com/; ComponentLink2Description: Datasheet; ComponentLink2URL: http://ww1.microchip.com/downloads/en/DeviceDoc/21370c.pdf; ComponentLink3Description: Package Specification; ComponentLink3URL: http://www.microchip.com/stellent/groups/techpub_sg/documents/packagingspec/en012702.pdf
footprint SOIC-OE16_N (SOIC, 16-Leads, Body 10.3x7.5mm, Pitch 1.27mm, IPC Medium Density)
footprint SOIC-OE16_L (SOIC, 16-Leads, Body 10.3x7.5mm, Pitch 1.27mm, IPC High Density)
footprint SOIC-OE16_M (SOIC, 16-Leads, Body 10.3x7.5mm, Pitch 1.27mm, IPC Low Density)
part A pins: 2 ~{PB RST} (in), 4 TD (in), 6 TOL (in), 8 GND (power), 9 RST (out), 11 ~{RST} (oc), 13 ~{ST} (in), 15 VCC (power)
part B pins: 1 NC, 3 NC, 5 NC, 7 NC, 10 NC, 12 NC, 14 NC, 16 NC

## TC1232CPA
designator U?
Microprocessor Monitor, 8-Pin PDIP, Commercial Temperature; Manufacturer: Microchip; PartNumber: TC1232CPA; DatasheetVersion: revC, Jun-2005; PackageVersion: revBB, Aug-2009; PackageReference: PDIP300-PA8; PackageDescription: 8-Lead Plastic Dual In-Line (PA) - 300 mil Body [PDIP]; Supplier 1: Digi-Key; Supplier Part Number 1: TC1232CPA-ND; Supplier 2: Farnell; Supplier Part Number 2: 1196814; Supplier 3: Newark; Supplier Part Number 3: 80K6160; Supplier 4: Mouser; Supplier Part Number 4: 579-TC1232CPA; Mounting Technology: Through Hole; Code_JEDEC: MS-001-BA; ComponentLink1Description: Manufacturer URL; ComponentLink1URL: http://www.microchip.com/; ComponentLink2Description: Datasheet; ComponentLink2URL: http://ww1.microchip.com/downloads/en/DeviceDoc/21370c.pdf; ComponentLink3Description: Package Specification; ComponentLink3URL: http://www.microchip.com/stellent/groups/techpub_sg/documents/packagingspec/en012702.pdf
footprint PDIP300-PA8 (DIP, 8-Leads, Row Spacing 7.62mm, Pitch 2.54mm, Body 9.5x6.6mm)
pins: 1 ~{PB RST} (in), 2 TD (in), 3 TOL (in), 4 GND (power), 5 RST (out), 6 ~{RST} (oc), 7 ~{ST} (in), 8 VCC (power)

## TC1232EOA
designator U?
Microprocessor Monitor, 8-Pin SOIC, Extended Temperature; Manufacturer: Microchip; PartNumber: TC1232EOA; DatasheetVersion: revC, Jun-2005; PackageVersion: revBB, Aug-2009; PackageReference: SOIC-OA8; PackageDescription: 8-Lead Plastic Small Outline (OA) - Narrow, 3.90mm Body [SOIC]; Supplier 1: Digi-Key; Supplier Part Number 1: TC1232EOA-ND; Supplier 2: Farnell; Supplier Part Number 2: 9762558; Supplier 3: Newark; Supplier Part Number 3: 98K1403; Supplier 4: Newark; Supplier Part Number 4: 96K4009; Supplier 5: Mouser; Supplier Part Number 5: 579-TC1232EOA; Mounting Technology: Surface Mount; Code_IPC: SOIC127P600-8; ComponentLink1Description: Manufacturer URL; ComponentLink1URL: http://www.microchip.com/; ComponentLink2Description: Datasheet; ComponentLink2URL: http://ww1.microchip.com/downloads/en/DeviceDoc/21370c.pdf; ComponentLink3Description: Package Specification; ComponentLink3URL: http://www.microchip.com/stellent/groups/techpub_sg/documents/packagingspec/en012702.pdf
footprint SOIC-OA8_N (SOIC, 8-Leads, Body 4.9x3.9mm, Pitch 1.27mm, IPC Medium Density)
footprint SOIC-OA8_L (SOIC, 8-Leads, Body 4.9x3.9mm, Pitch 1.27mm, IPC High Density)
footprint SOIC-OA8_M (SOIC, 8-Leads, Body 4.9x3.9mm, Pitch 1.27mm, IPC Low Density)
pins: 1 ~{PB RST} (in), 2 TD (in), 3 TOL (in), 4 GND (power), 5 RST (out), 6 ~{RST} (oc), 7 ~{ST} (in), 8 VCC (power)

## TC1232EOA713
designator U?
Microprocessor Monitor, 8-Pin SOIC, Extended Temperature, Tape and Reel; Manufacturer: Microchip; PartNumber: TC1232EOA713; DatasheetVersion: revC, Jun-2005; PackageVersion: revBB, Aug-2009; PackageReference: SOIC-OA8; PackageDescription: 8-Lead Plastic Small Outline (OA) - Narrow, 3.90mm Body [SOIC]; Supplier 1: Digi-Key; Supplier Part Number 1: TC1232EOA713TR-ND; Supplier 2: Newark; Supplier Part Number 2: 92C5737; Supplier 3: Mouser; Supplier Part Number 3: 579-TC1232EOA713; Mounting Technology: Surface Mount; Code_IPC: SOIC127P600-8; ComponentLink1Description: Manufacturer URL; ComponentLink1URL: http://www.microchip.com/; ComponentLink2Description: Datasheet; ComponentLink2URL: http://ww1.microchip.com/downloads/en/DeviceDoc/21370c.pdf; ComponentLink3Description: Package Specification; ComponentLink3URL: http://www.microchip.com/stellent/groups/techpub_sg/documents/packagingspec/en012702.pdf
footprint SOIC-OA8_N (SOIC, 8-Leads, Body 4.9x3.9mm, Pitch 1.27mm, IPC Medium Density)
footprint SOIC-OA8_L (SOIC, 8-Leads, Body 4.9x3.9mm, Pitch 1.27mm, IPC High Density)
footprint SOIC-OA8_M (SOIC, 8-Leads, Body 4.9x3.9mm, Pitch 1.27mm, IPC Low Density)
pins: 1 ~{PB RST} (in), 2 TD (in), 3 TOL (in), 4 GND (power), 5 RST (out), 6 ~{RST} (oc), 7 ~{ST} (in), 8 VCC (power)

## TC1232EOE
designator U?
Microprocessor Monitor, 16-Pin SOIC, Extended Temperature; Manufacturer: Microchip; PartNumber: TC1232EOE; DatasheetVersion: revC, Jun-2005; PackageVersion: revBB, Aug-2009; PackageReference: SOIC-OE16; PackageDescription: 16-Lead Plastic Small Outline (OE) - Wide 7.50mm Body [SOIC]; Supplier 1: Digi-Key; Supplier Part Number 1: TC1232EOE-ND; Supplier 2: Mouser; Supplier Part Number 2: 579-TC1232EOE; Mounting Technology: Surface Mount; Code_JEDEC: MS-013-AA; Code_IPC: SOIC127P1030-16; ComponentLink1Description: Manufacturer URL; ComponentLink1URL: http://www.microchip.com/; ComponentLink2Description: Datasheet; ComponentLink2URL: http://ww1.microchip.com/downloads/en/DeviceDoc/21370c.pdf; ComponentLink3Description: Package Specification; ComponentLink3URL: http://www.microchip.com/stellent/groups/techpub_sg/documents/packagingspec/en012702.pdf
footprint SOIC-OE16_N (SOIC, 16-Leads, Body 10.3x7.5mm, Pitch 1.27mm, IPC Medium Density)
footprint SOIC-OE16_L (SOIC, 16-Leads, Body 10.3x7.5mm, Pitch 1.27mm, IPC High Density)
footprint SOIC-OE16_M (SOIC, 16-Leads, Body 10.3x7.5mm, Pitch 1.27mm, IPC Low Density)
part A pins: 2 ~{PB RST} (in), 4 TD (in), 6 TOL (in), 8 GND (power), 9 RST (out), 11 ~{RST} (oc), 13 ~{ST} (in), 15 VCC (power)
part B pins: 1 NC, 3 NC, 5 NC, 7 NC, 10 NC, 12 NC, 14 NC, 16 NC

## TC1232EOE713
designator U?
Microprocessor Monitor, 16-Pin SOIC, Extended Temperature, Tape and Reel; Manufacturer: Microchip; PartNumber: TC1232EOE713; DatasheetVersion: revC, Jun-2005; PackageVersion: revBB, Aug-2009; PackageReference: SOIC-OE16; PackageDescription: 16-Lead Plastic Small Outline (OE) - Wide 7.50mm Body [SOIC]; Supplier 1: Digi-Key; Supplier Part Number 1: TC1232EOE713-ND; Supplier 2: Mouser; Supplier Part Number 2: 579-TC1232EOE713; Mounting Technology: Surface Mount; Code_JEDEC: MS-013-AA; Code_IPC: SOIC127P1030-16; ComponentLink1Description: Manufacturer URL; ComponentLink1URL: http://www.microchip.com/; ComponentLink2Description: Datasheet; ComponentLink2URL: http://ww1.microchip.com/downloads/en/DeviceDoc/21370c.pdf; ComponentLink3Description: Package Specification; ComponentLink3URL: http://www.microchip.com/stellent/groups/techpub_sg/documents/packagingspec/en012702.pdf
footprint SOIC-OE16_N (SOIC, 16-Leads, Body 10.3x7.5mm, Pitch 1.27mm, IPC Medium Density)
footprint SOIC-OE16_L (SOIC, 16-Leads, Body 10.3x7.5mm, Pitch 1.27mm, IPC High Density)
footprint SOIC-OE16_M (SOIC, 16-Leads, Body 10.3x7.5mm, Pitch 1.27mm, IPC Low Density)
part A pins: 2 ~{PB RST} (in), 4 TD (in), 6 TOL (in), 8 GND (power), 9 RST (out), 11 ~{RST} (oc), 13 ~{ST} (in), 15 VCC (power)
part B pins: 1 NC, 3 NC, 5 NC, 7 NC, 10 NC, 12 NC, 14 NC, 16 NC

## TC1232EPA
designator U?
Microprocessor Monitor, 8-Pin PDIP, Extended Temperature; Manufacturer: Microchip; PartNumber: TC1232EPA; DatasheetVersion: revC, Jun-2005; PackageVersion: revBB, Aug-2009; PackageReference: PDIP300-PA8; PackageDescription: 8-Lead Plastic Dual In-Line (PA) - 300 mil Body [PDIP]; Supplier 1: Digi-Key; Supplier Part Number 1: TC1232EPA-ND; Supplier 2: Farnell; Supplier Part Number 2: 1852175; Supplier 3: Newark; Supplier Part Number 3: 92C5740; Supplier 4: Mouser; Supplier Part Number 4: 579-TC1232EPA; Mounting Technology: Through Hole; Code_JEDEC: MS-001-BA; ComponentLink1Description: Manufacturer URL; ComponentLink1URL: http://www.microchip.com/; ComponentLink2Description: Datasheet; ComponentLink2URL: http://ww1.microchip.com/downloads/en/DeviceDoc/21370c.pdf; ComponentLink3Description: Package Specification; ComponentLink3URL: http://www.microchip.com/stellent/groups/techpub_sg/documents/packagingspec/en012702.pdf
footprint PDIP300-PA8 (DIP, 8-Leads, Row Spacing 7.62mm, Pitch 2.54mm, Body 9.5x6.6mm)
pins: 1 ~{PB RST} (in), 2 TD (in), 3 TOL (in), 4 GND (power), 5 RST (out), 6 ~{RST} (oc), 7 ~{ST} (in), 8 VCC (power)

## TC1270ALAVCTTR
designator U?
Voltage Supervisor with Manual Reset Input, 5-Pin SOT-23, VTRIP:4.50V (min.) / 4.63V (typ.) / 4.75V (max.), Tape and Reel; Manufacturer: Microchip; PartNumber: TC1270ALAVCTTR; DatasheetVersion: revB, Jun-2007; PackageVersion: revBB, Aug-2009; PackageReference: SOT-23-CT5; PackageDescription: 5-Lead Plastic Small Outline Transistor (CT) [SOT-23]; Mounting Technology: Surface Mount; Code_IPC: SOT23-5; ComponentLink1Description: Manufacturer URL; ComponentLink1URL: http://www.microchip.com/; ComponentLink2Description: Datasheet; ComponentLink2URL: http://ww1.microchip.com/downloads/en/DeviceDoc/22035b.pdf; ComponentLink3Description: Package Specification; ComponentLink3URL: http://www.microchip.com/stellent/groups/techpub_sg/documents/packagingspec/en012702.pdf
footprint SOT-23-CT5_N (SOT23, 5-Leads, Body 2.9x1.6mm, Pitch 0.95mm, Lead Span 2.7mm, IPC Medium Density)
footprint SOT-23-CT5_L (SOT23, 5-Leads, Body 2.9x1.6mm, Pitch 0.95mm, Lead Span 2.7mm, IPC High Density)
footprint SOT-23-CT5_M (SOT23, 5-Leads, Body 2.9x1.6mm, Pitch 0.95mm, Lead Span 2.7mm, IPC Low Density)
pins: 1 VSS (power), 2 ~{RST} (out), 3 ~{MR} (in), 4 VDD (power), 5 NC

## TC1270ALAVRCTR
designator U?
Voltage Supervisor with Manual Reset Input, 4-Pin SOT-143, VTRIP:4.50V (min.) / 4.63V (typ.) / 4.75V (max.), Tape and Reel; Manufacturer: Microchip; PartNumber: TC1270ALAVRCTR; DatasheetVersion: revB, Jun-2007; PackageVersion: revBB, Aug-2009; PackageReference: SOT-143-RC4; PackageDescription: 4-Lead Plastic Small Outline Transistor (RC) [SOT-143]; Mounting Technology: Surface Mount; Code_IPC: SOT143; ComponentLink1Description: Manufacturer URL; ComponentLink1URL: http://www.microchip.com/; ComponentLink2Description: Datasheet; ComponentLink2URL: http://ww1.microchip.com/downloads/en/DeviceDoc/22035b.pdf; ComponentLink3Description: Package Specification; ComponentLink3URL: http://www.microchip.com/stellent/groups/techpub_sg/documents/packagingspec/en012702.pdf
footprint SOT-143-RC4_N (SOT143, 4-Leads, Body 2.9x1.3mm, Pitch 1.9mm, Lead Span 2.4mm, IPC Medium Density)
footprint SOT-143-RC4_L (SOT143, 4-Leads, Body 2.9x1.3mm, Pitch 1.9mm, Lead Span 2.4mm, IPC High Density)
footprint SOT-143-RC4_M (SOT143, 4-Leads, Body 2.9x1.3mm, Pitch 1.9mm, Lead Span 2.4mm, IPC Low Density)
pins: 1 VSS (power), 2 ~{RST} (out), 3 ~{MR} (in), 4 VDD (power)